# EAGLE library part FGPMMOPA6C (library FGPMMOPA6C)
GlobalTop FGPMMOPA6C GPS Module
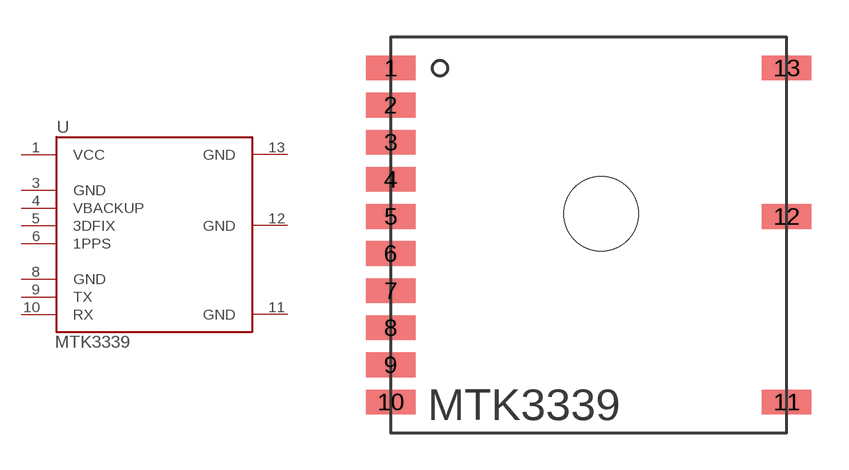
[diagram p0: symbol with the pads of FGPMMOPA6C; footprint FGPMMOPA6C]

Designator prefix -

## FGPMMOPA6C  [FGPMMOPA6C]
1  VCC  pwr
2  NC$1  nc
3  GND  pwr
4  VBACKUP  pwr
5  3DFIX  out
6  1PPS  out
7  NC$2  nc
8  GND  pwr
9  TX  out
10  RX  in
11  GND  pwr
12  GND  pwr
13  GND  pwr

## Footprint FGPMMOPA6C (pad centres in mm)
FGPMMOPA6C GPS Standalone Module
smd 2 x 1: 1 -8,6.75; 2 -8,5.25; 3 -8,3.75; 4 -8,2.25; 5 -8,0.75; 6 -8,-0.75; 7 -8,-2.25; 8 -8,-3.75; 9 -8,-5.25; 10 -8,-6.75; 11 8,-6.75; 12 8,0.75; 13 8,6.75
hole 3 at 0.5,0.85